# Altium schematic symbol library LP5907MFX.Schlib: 1 symbol
Pins are listed as number, name and electrical type; pins without a type are passive.

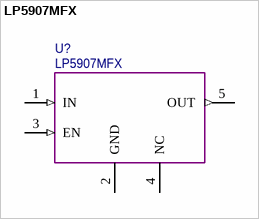
[diagram p0: symbol LP5907MFX]

## LP5907MFX
designator U?
ultra low noise LDO
pins: 1 IN (in), 2 GND (power), 3 EN (in), 4 NC, 5 OUT (out)